# EAGLE library part 2X15-2.0 (library JLB6_Connec)
Header 2x15 pitch 2.0mm
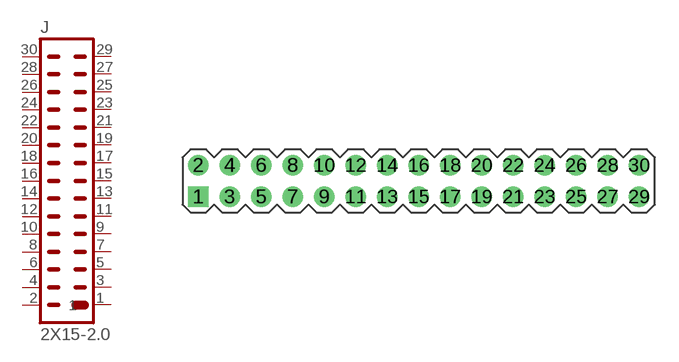
[diagram p75: symbol with the pads of 2X15-2.0; footprint 2X15-2.0]

Designator prefix J

## 2X15-2.0  [2X15-2.0]
1  1  pas
2  2  pas
3  3  pas
4  4  pas
5  5  pas
6  6  pas
7  7  pas
8  8  pas
9  9  pas
10  10  pas
11  11  pas
12  12  pas
13  13  pas
14  14  pas
15  15  pas
16  16  pas
17  17  pas
18  18  pas
19  19  pas
20  20  pas
21  21  pas
22  22  pas
23  23  pas
24  24  pas
25  25  pas
26  26  pas
27  27  pas
28  28  pas
29  29  pas
30  30  pas

## Footprint 2X15-2.0 (pad centres in mm)
drill 0.8 square: 1 0,0
drill 0.8: 2 0,2; 3 2,0; 4 2,2; 5 4,0; 6 4,2; 7 6,0; 8 6,2; 9 8,0; 10 8,2; 11 10,0; 12 10,2; 13 12,0; 14 12,2; 15 14,0; 16 14,2; 17 16,0; 18 16,2; 19 18,0; 20 18,2; 21 20,0; 22 20,2; 23 22,0; 24 22,2; 25 24,0; 26 24,2; 27 26,0; 28 26,2; 29 28,0; 30 28,2